# Altium footprint library QFN16_3X3X7_N.PcbLib: 1 footprints
Each footprint in its own frame and in the unit in brackets; x right, y up, seen from the top. Pads: shape width x height; smd on the part's side, far side on the other; paste and mask are expansions set on the pad; w line width, h text height; cw(c..) or ccw(c..) is an arc to the next point about the centre after c.
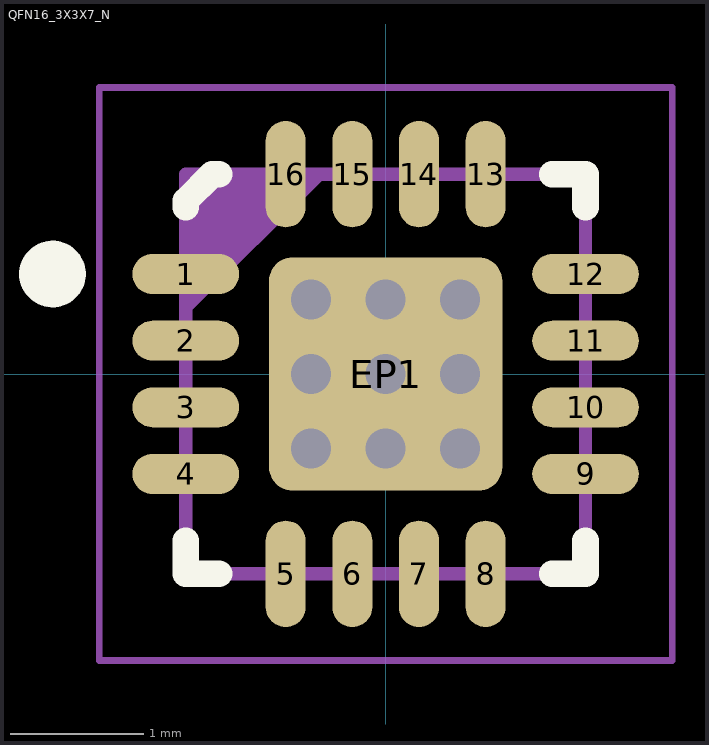
[diagram p0: the footprint, top view; thin cyan lines are the x and y axes]

## QFN16_3X3X7_N [mm] "QFN, 0.50mm Pitch, Square; 16 Pin, 3.00mm L X 3.00mm W X 0.80mm H Body (w/Thermal Tab 1.75 X 1.75mm),  IPC Medium Density"
height 0.8
pads (17):
  oval 0.8x0.3 smd mask+0: 1(-1.5,0.75) 12(1.5,0.75)
  oval 0.8x0.3 smd mask+0.05: 2(-1.5,0.25) 3(-1.5,-0.25) 4(-1.5,-0.75) 9(1.5,-0.75) 10(1.5,-0.25) 11(1.5,0.25)
  oval 0.3x0.8 smd mask+0.05: 5(-0.75,-1.5) 6(-0.25,-1.5) 7(0.25,-1.5) 8(0.75,-1.5) 13(0.75,1.5) 14(0.25,1.5) 15(-0.25,1.5) 16(-0.75,1.5)
  rrect20% 1.75x1.75 smd mask+0.05: EP1(0,0)
via 0,0 diameter 0.61 hole 0.3
via -0.559,0 diameter 0.61 hole 0.3
via 0,-0.559 diameter 0.61 hole 0.3
via 0.559,0 diameter 0.61 hole 0.3
via 0,0.559 diameter 0.61 hole 0.3
via -0.559,-0.559 diameter 0.61 hole 0.3
via -0.559,0.559 diameter 0.61 hole 0.3
via 0.559,0.559 diameter 0.61 hole 0.3
via 0.559,-0.559 diameter 0.61 hole 0.3
Top Overlay:
  circle w0.25: c-2.5,0.75 r0.125
  lines w0.2: -1.5,-1.25 -1.5,-1.5 -1.25,-1.5 ; -1.5,1.25 -1.5,1.3 -1.3,1.5 -1.25,1.5 ; 1.25,-1.5 1.5,-1.5 1.5,-1.25 ; 1.25,1.5 1.5,1.5 1.5,1.25
Mechanical 14:
  lines w0.1: -1.5,0.5 -0.5,1.5 ; -1.5,0.6 -0.6,1.5 ; -1.5,0.7 -0.7,1.5 ; -1.5,0.8 -0.8,1.5 ; -1.5,0.9 -0.9,1.5 ; -1.5,1 -1,1.5 ; -1.5,1.1 -1.1,1.5 ; -1.5,1.2 -1.2,1.5 ; -1.5,1.3 -1.3,1.5 ; -1.5,1.4 -1.4,1.5 ; -1.5,-1.5 1.5,-1.5 1.5,1.5 -1.5,1.5 -1.5,-1.5
Mechanical 15:
  circle w0.05: c0,0 r0.35
  lines w0.05: -0.5,0 0.5,0 ; 0,-0.5 0,0.5 ; -2.15,-2.15 2.15,-2.15 2.15,2.15 -2.15,2.15 -2.15,-2.15
Mechanical 17:
  text "'.Designator'" at -1.651,-0.254 h0.3
3D body "QFN50P300X300X80-17N-S175.stp": height 0.8, standoff 0, extent -1.575,-1.575 1.575,1.575